# Altium footprint library chip.PcbLib: 31 footprints (part 1 of 2)
Each footprint in its own frame and in the unit in brackets; x right, y up, seen from the top. Pads: shape width x height; smd on the part's side, far side on the other; paste and mask are expansions set on the pad; w line width, h text height; cw(c..) or ccw(c..) is an arc to the next point about the centre after c.
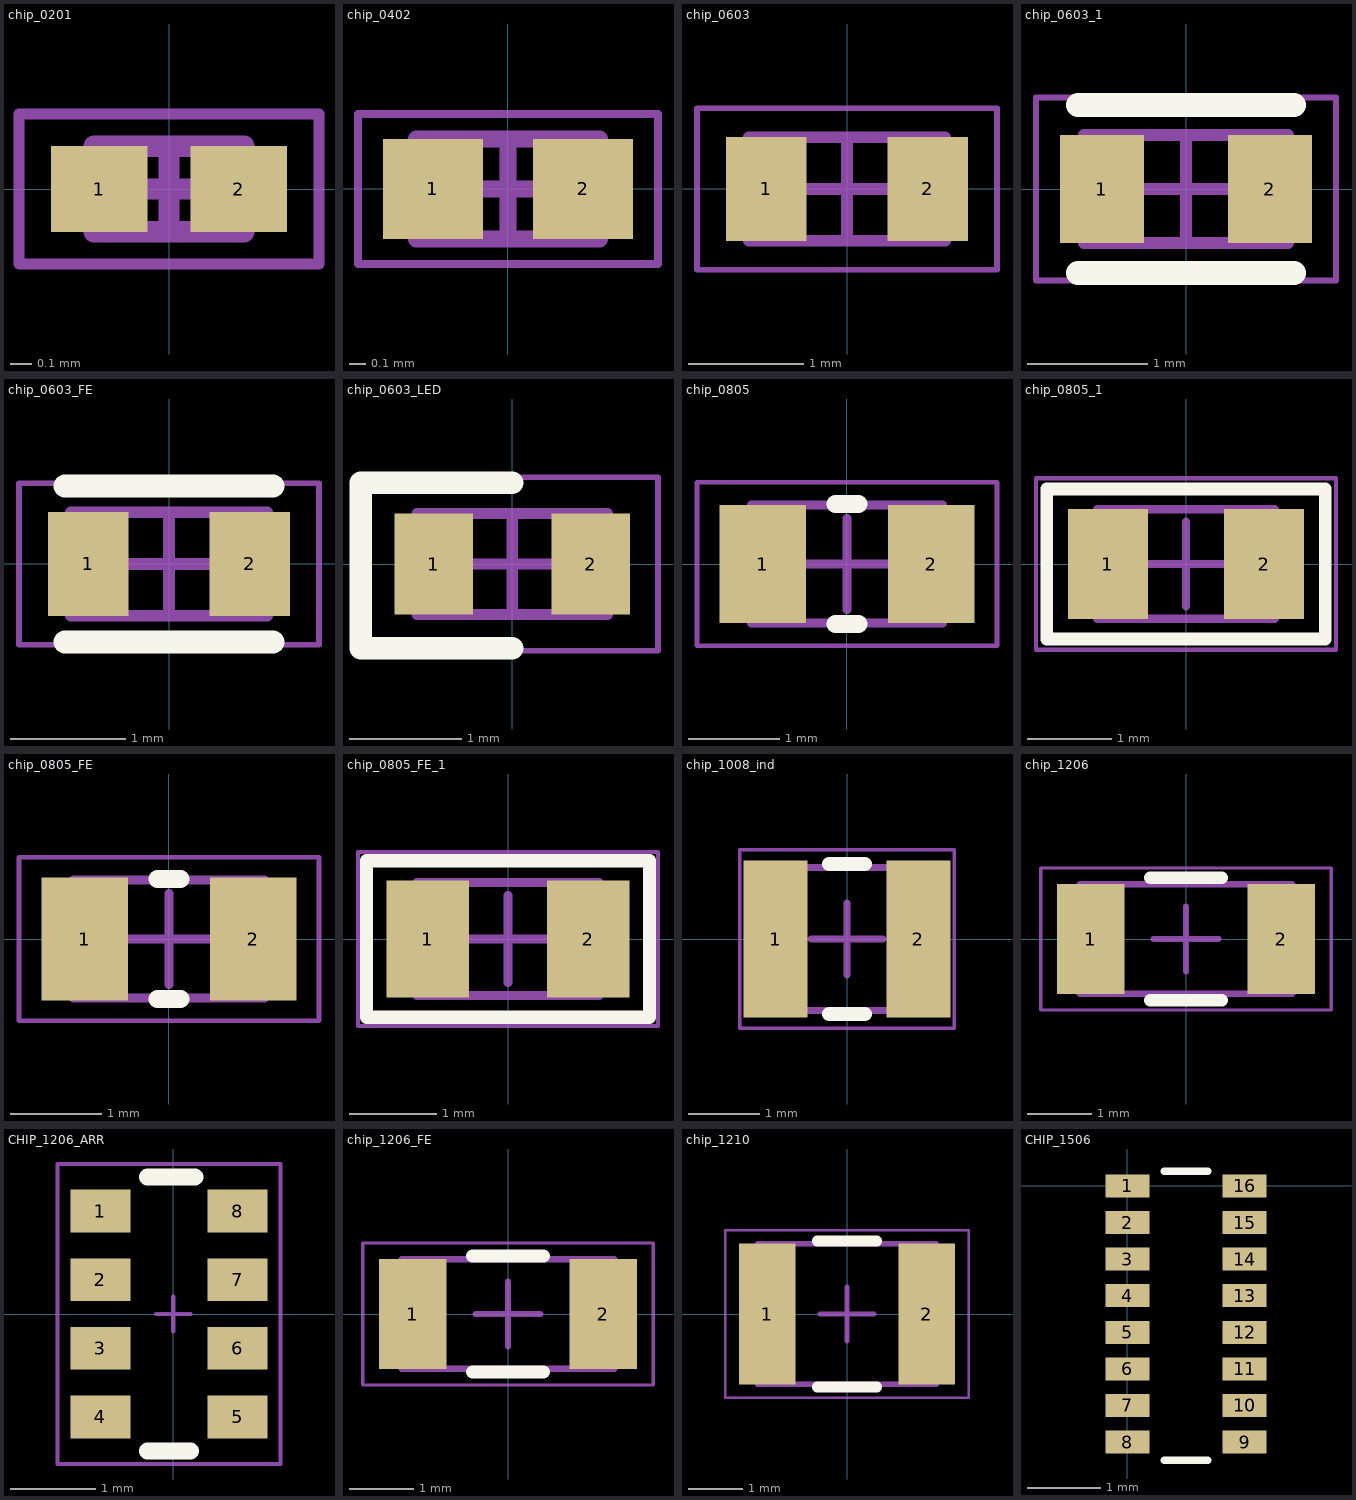
[diagram p0: the footprints below, top view; thin cyan lines are the x and y axes]

## chip_0201 [mm]
height 0.6
pads (2):
  rect 0.45x0.4 smd: 1(-0.325,0) 2(0.325,0)
Mechanical 13:
  lines w0.1: -0.35,-0.2 -0.35,0.2 0.35,0.2 0.35,-0.2 -0.35,-0.2
Mechanical 15:
  lines w0.05: -0.7,-0.35 -0.7,0.35 0.7,0.35 0.7,-0.35 -0.7,-0.35
  lines w0.1: -0.2,0 0.2,0 ; 0,-0.2 0,0.2
3D body: height 0.6, standoff 0, extent -0.23,-0.2 0.23,0.2
3D body: height 0.6, standoff 0, extent -0.35,-0.2 -0.23,0.2
3D body: height 0.6, standoff 0, extent 0.23,-0.2 0.35,0.2

## chip_0402 [mm]
height 0.6
pads (2):
  rect 0.6x0.6 smd: 1(-0.45,0) 2(0.45,0)
Mechanical 13:
  lines w0.1: -0.55,-0.3 -0.55,0.3 0.55,0.3 0.55,-0.3 -0.55,-0.3
Mechanical 15:
  lines w0.05: -0.9,-0.45 -0.9,0.45 0.9,0.45 0.9,-0.45 -0.9,-0.45
  lines w0.1: -0.3,0 0.3,0 ; 0,-0.3 0,0.3
3D body: height 0.6, standoff 0, extent -0.3,-0.3 0.3,0.3
3D body: height 0.6, standoff 0, extent -0.55,-0.3 -0.3,0.3
3D body: height 0.6, standoff 0, extent 0.3,-0.3 0.55,0.3

## chip_0603 [mm]
height 0.6
pads (2):
  rect 0.7x0.9 smd: 1(-0.7,0) 2(0.7,0)
Mechanical 13:
  lines w0.1: -0.85,-0.45 -0.85,0.45 0.85,0.45 0.85,-0.45 -0.85,-0.45
Mechanical 15:
  lines w0.05: -1.3,-0.7 -1.3,0.7 1.3,0.7 1.3,-0.7 -1.3,-0.7
  lines w0.1: -0.45,0 0.45,0 ; 0,-0.45 0,0.45
3D body: height 0.6, standoff 0, extent -0.55,-0.45 0.55,0.45
3D body: height 0.6, standoff 0, extent -0.85,-0.45 -0.55,0.45
3D body: height 0.6, standoff 0, extent 0.55,-0.45 0.85,0.45

## chip_0603_1 [mm] "chip 0603 with larger silkscreen outline"
height 0.6
pads (2):
  rect 0.7x0.9 smd: 1(-0.7,0) 2(0.7,0)
Top Overlay:
  lines w0.2: -0.9,-0.7 0.9,-0.7 ; -0.9,0.7 0.9,0.7
Mechanical 13:
  lines w0.1: -0.85,-0.45 -0.85,0.45 0.85,0.45 0.85,-0.45 -0.85,-0.45
Mechanical 15:
  lines w0.05: -1.25,-0.762 -1.25,0.762 1.25,0.762 1.25,-0.762 -1.25,-0.762
  lines w0.1: -0.45,0 0.45,0 ; 0,-0.45 0,0.45
3D body: height 0.6, standoff 0, extent -0.55,-0.45 0.55,0.45
3D body: height 0.6, standoff 0, extent -0.85,-0.45 -0.55,0.45
3D body: height 0.6, standoff 0, extent 0.55,-0.45 0.85,0.45

## chip_0603_FE [mm]
height 0.6
pads (2):
  rect 0.7x0.9 smd: 1(-0.7,0) 2(0.7,0)
Top Overlay:
  lines w0.2: -0.9,-0.675 0.9,-0.675 ; -0.9,0.675 0.9,0.675
Mechanical 13:
  lines w0.1: -0.85,-0.45 -0.85,0.45 0.85,0.45 0.85,-0.45 -0.85,-0.45
Mechanical 15:
  lines w0.05: -1.3,-0.7 -1.3,0.7 1.3,0.7 1.3,-0.7 -1.3,-0.7
  lines w0.1: -0.45,0 0.45,0 ; 0,-0.45 0,0.45
3D body: height 0.9, standoff 0, extent -0.55,-0.425 0.55,0.425
3D body: height 0.92, standoff 0, extent -0.85,-0.45 -0.55,0.45
3D body: height 0.92, standoff 0, extent 0.55,-0.45 0.85,0.45

## chip_0603_LED [mm]
height 0.6
pads (2):
  rect 0.7x0.9 smd: 1(-0.7,0) 2(0.7,0)
Top Overlay:
  lines w0.2: 0,-0.75 -1.35,-0.75 -1.35,0.725 0,0.725
Mechanical 13:
  lines w0.1: -0.85,-0.45 -0.85,0.45 0.85,0.45 0.85,-0.45 -0.85,-0.45
Mechanical 15:
  lines w0.05: -1.375,-0.775 -1.375,0.775 1.3,0.775 1.3,-0.775 -1.375,-0.775
  lines w0.1: -0.45,0 0.45,0 ; 0,-0.45 0,0.45
3D body: height 0.6, standoff 0, extent -0.55,-0.45 0.55,0.45
3D body: height 0.6, standoff 0, extent -0.85,-0.45 -0.55,0.45
3D body: height 0.6, standoff 0, extent 0.55,-0.45 0.85,0.45

## chip_0805 [mm]
height 0.6
pads (2):
  rect 0.95x1.3 smd: 1(-0.925,0) 2(0.925,0)
Top Overlay:
  lines w0.2: -0.127,-0.66 0.127,-0.66 ; -0.127,0.66 0.127,0.66
Mechanical 13:
  lines w0.1: -1.05,-0.65 1.05,-0.65 1.05,0.65 -1.05,0.65 -1.05,-0.65
Mechanical 15:
  lines w0.05: -1.65,-0.9 1.65,-0.9 1.65,0.9 -1.65,0.9 -1.65,-0.9
  lines w0.1: -0.5,0 0.5,0 ; 0,-0.5 0,0.5
3D body: height 0.6, standoff 0, extent 0.6,-0.65 1.05,0.65
3D body: height 0.6, standoff 0, extent -1.05,-0.65 -0.6,0.65
3D body: height 0.6, standoff 0, extent -0.6,-0.65 0.6,0.65

## chip_0805_1 [mm] "chip 0805 with larger silkscreen outline"
height 0.6
pads (2):
  rect 0.95x1.3 smd: 1(-0.925,0) 2(0.925,0)
Top Overlay:
  lines w0.15: -1.651,-0.889 1.651,-0.889 1.651,0.889 -1.651,0.889 -1.651,-0.889
Mechanical 13:
  lines w0.1: -1.05,-0.65 -1.05,0.65 1.05,0.65 1.05,-0.65 -1.05,-0.65
Mechanical 15:
  lines w0.05: -1.778,-1.016 1.778,-1.016 1.778,1.016 -1.778,1.016 -1.778,-1.016
  lines w0.1: -0.5,0 0.5,0 ; 0,-0.5 0,0.5
3D body: height 0.6, standoff 0, extent -0.6,-0.65 0.6,0.65
3D body: height 0.6, standoff 0, extent -1.05,-0.65 -0.6,0.65
3D body: height 0.6, standoff 0, extent 0.6,-0.65 1.05,0.65

## chip_0805_FE [mm] "0805 Ferrite Bead"
height 0.6
pads (2):
  rect 0.95x1.35 smd: 1(-0.925,0) 2(0.925,0)
Top Overlay:
  lines w0.2: -0.127,-0.66 0.127,-0.66 ; -0.127,0.66 0.127,0.66
Mechanical 13:
  lines w0.1: -1.05,-0.65 1.05,-0.65 1.05,0.65 -1.05,0.65 -1.05,-0.65
Mechanical 15:
  lines w0.05: -1.65,-0.9 1.65,-0.9 1.65,0.9 -1.65,0.9 -1.65,-0.9
  lines w0.1: -0.5,0 0.5,0 ; 0,-0.5 0,0.5
3D body: height 1.17, standoff 0, extent 0.6,-0.65 1.05,0.65
3D body: height 1.17, standoff 0, extent -1.05,-0.65 -0.6,0.65
3D body: height 1.15, standoff 0.03, extent -0.6,-0.65 0.6,0.65

## chip_0805_FE_1 [mm] "0805 Ferrite Bead"
height 0.6
pads (2):
  rect 0.95x1.35 smd: 1(-0.925,0) 2(0.925,0)
Top Overlay:
  lines w0.15: -1.625,-0.9 1.625,-0.9 1.625,0.9 -1.625,0.9 -1.625,-0.9
Mechanical 13:
  lines w0.1: -1.05,-0.65 -1.05,0.65 1.05,0.65 1.05,-0.65 -1.05,-0.65
Mechanical 15:
  lines w0.05: -1.725,-1 -1.725,1 1.725,1 1.725,-1 -1.725,-1
  lines w0.1: -0.5,0 0.5,0 ; 0,-0.5 0,0.5
3D body: height 1.15, standoff 0.03, extent -0.6,-0.65 0.6,0.65
3D body: height 1.17, standoff 0, extent -1.05,-0.65 -0.6,0.65
3D body: height 1.17, standoff 0, extent 0.6,-0.65 1.05,0.65

## chip_1008_ind [mm]
height 0.6
pads (2):
  rect 0.9x2.2 smd: 1(-1,0) 2(1,0)
Top Overlay:
  lines w0.2: -0.25,-1.05 0.25,-1.05 ; -0.25,1.05 0.25,1.05
Mechanical 13:
  lines w0.1: -1.25,-1 1.25,-1 1.25,1 -1.25,1 -1.25,-1
Mechanical 15:
  lines w0.05: -1.5,-1.25 1.5,-1.25 1.5,1.25 -1.5,1.25 -1.5,-1.25
  lines w0.1: -0.5,0 0.5,0 ; 0,-0.5 0,0.5
3D body: height 0.9, standoff 0, extent 0.65,-1 1.25,1
3D body: height 0.9, standoff 0, extent -1.25,-1 -0.65,1
3D body: height 0.85, standoff 0.03, extent -0.65,-0.975 0.65,0.975

## chip_1206 [mm]
height 0.6
pads (2):
  rect 1.05x1.7 smd: 1(-1.475,0) 2(1.475,0)
Top Overlay:
  lines w0.2: -0.55,-0.95 0.55,-0.95 ; -0.55,0.95 0.55,0.95
Mechanical 13:
  lines w0.1: -1.65,-0.85 1.65,-0.85 1.65,0.85 -1.65,0.85 -1.65,-0.85
Mechanical 15:
  lines w0.05: -2.25,-1.1 2.25,-1.1 2.25,1.1 -2.25,1.1 -2.25,-1.1
  lines w0.1: -0.5,0 0.5,0 ; 0,-0.5 0,0.5
3D body: height 0.6, standoff 0, extent 1.15,-0.85 1.65,0.85
3D body: height 0.6, standoff 0, extent -1.65,-0.85 -1.15,0.85
3D body: height 0.6, standoff 0, extent -1.15,-0.85 1.15,0.85

## CHIP_1206_ARR [mm] "4 element array"
pads (8):
  rect 0.7x0.5 smd mask+0.062: 1(-0.85,1.2) 2(-0.85,0.4) 3(-0.85,-0.4) 4(-0.85,-1.2) 5(0.75,-1.2) 6(0.75,-0.4) 7(0.75,0.4) 8(0.75,1.2)
Top Overlay:
  lines w0.2: -0.3,-1.6 0.2,-1.6 ; -0.3,1.6 0.25,1.6
Mechanical 15:
  lines w0.05: -0.2,0 0.2,0 ; 0,-0.2 0,0.2 ; -1.35,-1.75 1.25,-1.75 1.25,1.75 -1.35,1.75 -1.35,-1.75
3D body: height 0.53, standoff 0, extent -0.85,-1.6 0.75,1.6

## chip_1206_FE [mm] "1206 Ferrite Bead"
height 0.6
pads (2):
  rect 1.05x1.7 smd: 1(-1.475,0) 2(1.475,0)
Top Overlay:
  lines w0.2: -0.55,-0.9 0.55,-0.9 ; -0.55,0.9 0.55,0.9
Mechanical 13:
  lines w0.1: -1.65,-0.85 -1.65,0.85 1.65,0.85 1.65,-0.85 -1.65,-0.85
Mechanical 15:
  lines w0.05: -2.25,-1.1 -2.25,1.1 2.25,1.1 2.25,-1.1 -2.25,-1.1
  lines w0.1: -0.5,0 0.5,0 ; 0,-0.5 0,0.5
3D body: height 1.68, standoff 0, extent -1.15,-0.825 1.15,0.825
3D body: height 1.7, standoff 0, extent -1.65,-0.85 -1.15,0.85
3D body: height 1.7, standoff 0, extent 1.15,-0.85 1.65,0.85

## chip_1210 [mm]
height 0.6
pads (2):
  rect 1.05x2.6 smd: 1(-1.475,0) 2(1.475,0)
Top Overlay:
  lines w0.2: -0.55,-1.35 0.55,-1.35 ; -0.55,1.35 0.55,1.35
Mechanical 13:
  lines w0.1: -1.65,-1.3 -1.65,1.3 1.65,1.3 1.65,-1.3 -1.65,-1.3
Mechanical 15:
  lines w0.05: -2.25,-1.55 -2.25,1.55 2.25,1.55 2.25,-1.55 -2.25,-1.55
  lines w0.1: -0.5,0 0.5,0 ; 0,-0.5 0,0.5
3D body: height 0.6, standoff 0, extent -1.15,-1.3 1.15,1.3
3D body: height 0.6, standoff 0, extent -1.65,-1.3 -1.15,1.3
3D body: height 0.6, standoff 0, extent 1.15,-1.3 1.65,1.3

## CHIP_1506 [mm]
pads (16):
  rect 0.6x0.315 smd mask+0.045: 1(0,0) 2(0,-0.5) 3(0,-1) 4(0,-1.5) 5(0,-2) 6(0,-2.5) 7(0,-3) 8(0,-3.5) 9(1.6,-3.5) 10(1.6,-3) 11(1.6,-2.5) 12(1.6,-2) 13(1.6,-1.5) 14(1.6,-1) 15(1.6,-0.5) 16(1.6,0)
Top Overlay:
  lines w0.1: 0.5,-3.75 1.1,-3.75 ; 0.5,0.2 1.1,0.2
3D body: height 0.45, standoff 0, extent 0,-3.65 1.6,0.15